# Altium schematic symbol library AMC1411QDWLRQ1.SchLib: 1 symbol
Pins are listed as number, name and electrical type; pins without a type are passive.

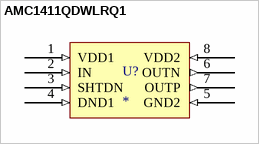
[diagram p0: symbol AMC1411QDWLRQ1]

## AMC1411QDWLRQ1
designator U?
mouser: https://www.mouser.com/ProductDetail/Texas-Instruments/AMC1411QDWLRQ1?qs=Rp5uXu7WBW9VgWcI1l5sjg%3D%3D; ComponentLink1Description: New link; ComponentLink1URL: *; ComponentLink2Description: New link 1; ComponentLink2URL: *
footprint AMC1411QDWLRQ1 (SOIC, 8-Leads, Body 6.40x14.00mm, Pitch 1.27mm, IPC Medium Density)
pins: 1 VDD1 (in), 2 IN (in), 3 SHTDN (in), 4 DND1 (in), 5 GND2 (in), 6 OUTN (out), 7 OUTP (out), 8 VDD2 (in)